# EAGLE library part LTM8021 (library linear-technology)
36Vin, 500mA Step-Down DC/DC µModule The LTM8021 is a 36VIN 500mA, step-down DC/DC μModule®. Included in the package are the switching controller, power switches, inductor, and all support components. Operating over an input voltage range of 3V to 36V, the LTM8021 supports an output voltage range of 0.8V to 5V, set by a single resistor. Only an output and bulk input capacitor are needed to ﬁ nish the design. The low pro le package (2.82mm) enables utilization of unused space on the bottom of PC boards for high density point of load regulation. A built-in soft-start timer is adjustable with just a resistor and capacitor. The LTM8021 is packaged in a thermally enhanced, compact (11.25mm × 6.25mm) and low proﬁ le (2.82mm) overmolded land grid array (LGA) package suitable for automated assembly by standard surface mount equipment. The LTM8021 is RoHS compliant.
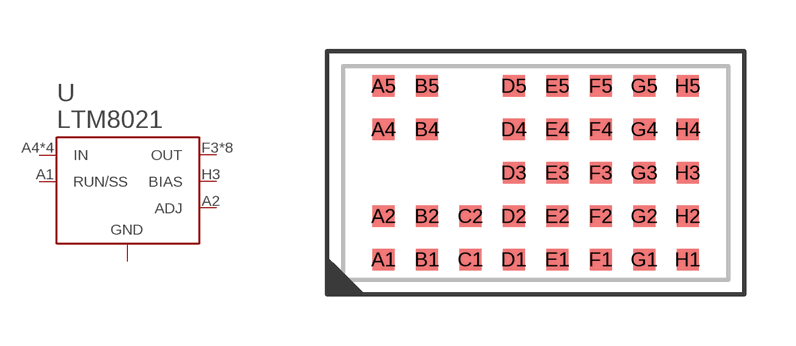
[diagram p30: symbol with the pads of LGA-35; footprint LGA-35]

Designator prefix U

## LTM8021  [LGA-35]
A1  RUN/SS
A2  ADJ
A4  IN
A5  IN
B1  GND
B2  GND
B4  IN
B5  IN
C1  GND
C2  GND
D1  GND
D2  GND
D3  GND
D4  GND
D5  GND
E1  GND
E2  GND
E3  GND
E4  GND
E5  GND
F1  GND
F2  GND
F3  OUT
F4  OUT
F5  OUT
G1  GND
G2  GND
G3  OUT
G4  OUT
G5  OUT
H1  GND
H2  GND
H3  BIAS
H4  OUT
H5  OUT

## Footprint LGA-35 (pad centres in mm)
smd 0.635 x 0.635: A1 -4.445,-2.54; A2 -4.445,-1.27; A4 -4.445,1.27; A5 -4.445,2.54; B1 -3.175,-2.54; B2 -3.175,-1.27; B4 -3.175,1.27; B5 -3.175,2.54; C1 -1.905,-2.54; C2 -1.905,-1.27; D1 -0.635,-2.54; D2 -0.635,-1.27; D3 -0.635,0; D4 -0.635,1.27; D5 -0.635,2.54; E1 0.635,-2.54; E2 0.635,-1.27; E3 0.635,0; E4 0.635,1.27; E5 0.635,2.54; F1 1.905,-2.54; F2 1.905,-1.27; F3 1.905,0; F4 1.905,1.27; F5 1.905,2.54; G1 3.175,-2.54; G2 3.175,-1.27; G3 3.175,0; G4 3.175,1.27; G5 3.175,2.54; H1 4.445,-2.54; H2 4.445,-1.27; H3 4.445,0; H4 4.445,1.27; H5 4.445,2.54